# EAGLE library part PIC32MK1024MCF100 (library clackboard_lib)
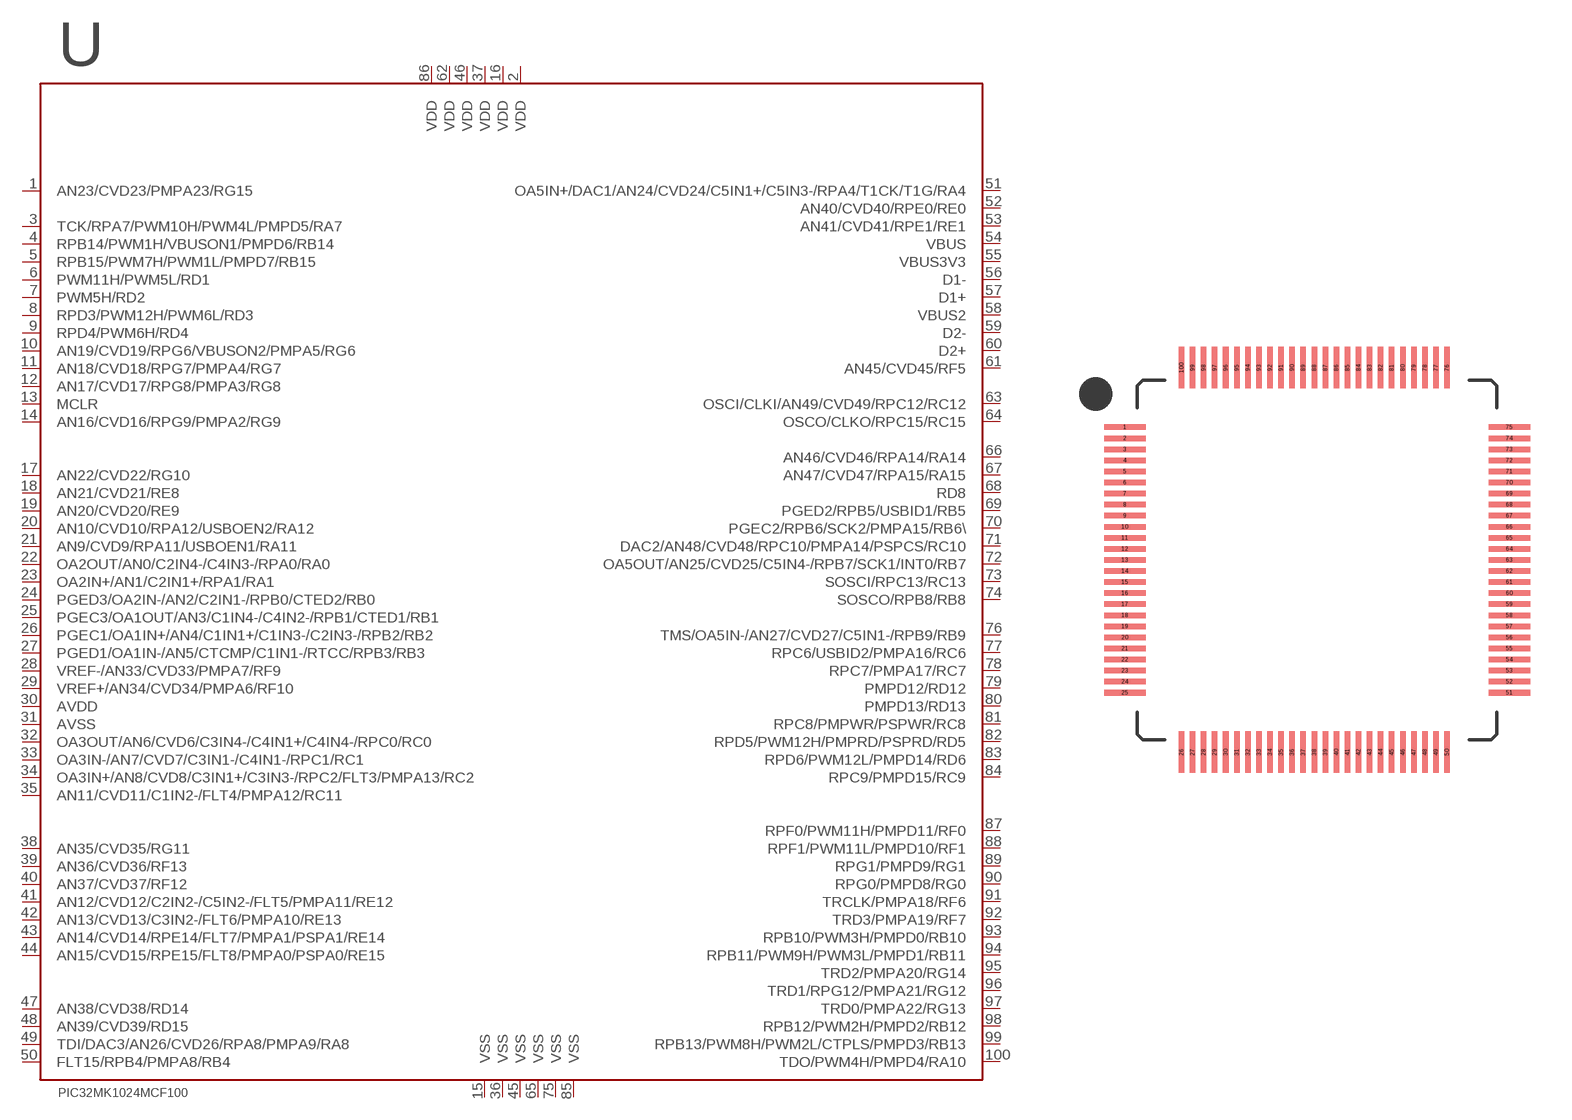
[diagram p0: symbol with the pads of PIC32MK1024MCF100; footprint PIC32MK1024MCF100]

Designator prefix U

## PIC32MK1024MCF100100TQFP  [PIC32MK1024MCF100]
1  AN23/CVD23/PMPA23/RG15
2  VDD
3  TCK/RPA7/PWM10H/PWM4L/PMPD5/RA7
4  RPB14/PWM1H/VBUSON1/PMPD6/RB14
5  RPB15/PWM7H/PWM1L/PMPD7/RB15
6  PWM11H/PWM5L/RD1
7  PWM5H/RD2
8  RPD3/PWM12H/PWM6L/RD3
9  RPD4/PWM6H/RD4
10  AN19/CVD19/RPG6/VBUSON2/PMPA5/RG6
11  AN18/CVD18/RPG7/PMPA4/RG7
12  AN17/CVD17/RPG8/PMPA3/RG8
13  MCLR
14  AN16/CVD16/RPG9/PMPA2/RG9
15  VSS
16  VDD
17  AN22/CVD22/RG10
18  AN21/CVD21/RE8
19  AN20/CVD20/RE9
20  AN10/CVD10/RPA12/USBOEN2/RA12
21  AN9/CVD9/RPA11/USBOEN1/RA11
22  OA2OUT/AN0/C2IN4-/C4IN3-/RPA0/RA0
23  OA2IN+/AN1/C2IN1+/RPA1/RA1
24  PGED3/OA2IN-/AN2/C2IN1-/RPB0/CTED2/RB0
25  PGEC3/OA1OUT/AN3/C1IN4-/C4IN2-/RPB1/CTED1/RB1
26  PGEC1/OA1IN+/AN4/C1IN1+/C1IN3-/C2IN3-/RPB2/RB2
27  PGED1/OA1IN-/AN5/CTCMP/C1IN1-/RTCC/RPB3/RB3
28  VREF-/AN33/CVD33/PMPA7/RF9
29  VREF+/AN34/CVD34/PMPA6/RF10
30  AVDD
31  AVSS
32  OA3OUT/AN6/CVD6/C3IN4-/C4IN1+/C4IN4-/RPC0/RC0
33  OA3IN-/AN7/CVD7/C3IN1-/C4IN1-/RPC1/RC1
34  OA3IN+/AN8/CVD8/C3IN1+/C3IN3-/RPC2/FLT3/PMPA13/RC2
35  AN11/CVD11/C1IN2-/FLT4/PMPA12/RC11
36  VSS
37  VDD
38  AN35/CVD35/RG11
39  AN36/CVD36/RF13
40  AN37/CVD37/RF12
41  AN12/CVD12/C2IN2-/C5IN2-/FLT5/PMPA11/RE12
42  AN13/CVD13/C3IN2-/FLT6/PMPA10/RE13
43  AN14/CVD14/RPE14/FLT7/PMPA1/PSPA1/RE14
44  AN15/CVD15/RPE15/FLT8/PMPA0/PSPA0/RE15
45  VSS
46  VDD
47  AN38/CVD38/RD14
48  AN39/CVD39/RD15
49  TDI/DAC3/AN26/CVD26/RPA8/PMPA9/RA8
50  FLT15/RPB4/PMPA8/RB4
51  OA5IN+/DAC1/AN24/CVD24/C5IN1+/C5IN3-/RPA4/T1CK/T1G/RA4
52  AN40/CVD40/RPE0/RE0
53  AN41/CVD41/RPE1/RE1
54  VBUS
55  VBUS3V3
56  D1-
57  D1+
58  VBUS2
59  D2-
60  D2+
61  AN45/CVD45/RF5
62  VDD
63  OSCI/CLKI/AN49/CVD49/RPC12/RC12
64  OSCO/CLKO/RPC15/RC15
65  VSS
66  AN46/CVD46/RPA14/RA14
67  AN47/CVD47/RPA15/RA15
68  RD8
69  PGED2/RPB5/USBID1/RB5
70  PGEC2/RPB6/SCK2/PMPA15/RB6\
71  DAC2/AN48/CVD48/RPC10/PMPA14/PSPCS/RC10
72  OA5OUT/AN25/CVD25/C5IN4-/RPB7/SCK1/INT0/RB7
73  SOSCI/RPC13/RC13
74  SOSCO/RPB8/RB8
75  VSS
76  TMS/OA5IN-/AN27/CVD27/C5IN1-/RPB9/RB9
77  RPC6/USBID2/PMPA16/RC6
78  RPC7/PMPA17/RC7
79  PMPD12/RD12
80  PMPD13/RD13
81  RPC8/PMPWR/PSPWR/RC8
82  RPD5/PWM12H/PMPRD/PSPRD/RD5
83  RPD6/PWM12L/PMPD14/RD6
84  RPC9/PMPD15/RC9
85  VSS
86  VDD
87  RPF0/PWM11H/PMPD11/RF0
88  RPF1/PWM11L/PMPD10/RF1
89  RPG1/PMPD9/RG1
90  RPG0/PMPD8/RG0
91  TRCLK/PMPA18/RF6
92  TRD3/PMPA19/RF7
93  RPB10/PWM3H/PMPD0/RB10
94  RPB11/PWM9H/PWM3L/PMPD1/RB11
95  TRD2/PMPA20/RG14
96  TRD1/RPG12/PMPA21/RG12
97  TRD0/PMPA22/RG13
98  RPB12/PWM2H/PMPD2/RB12
99  RPB13/PWM8H/PWM2L/CTPLS/PMPD3/RB13
100  TDO/PWM4H/PMPD4/RA10

## Footprint PIC32MK1024MCF100 (pad centres in mm)
smd 1.5 x 0.2: 1 -6.95,4.8; 2 -6.95,4.4; 3 -6.95,4; 4 -6.95,3.6; 5 -6.95,3.2; 6 -6.95,2.8; 7 -6.95,2.4; 8 -6.95,2; 9 -6.95,1.6; 10 -6.95,1.2; 11 -6.95,0.8; 12 -6.95,0.4; 13 -6.95,0; 14 -6.95,-0.4; 15 -6.95,-0.8; 16 -6.95,-1.2; 17 -6.95,-1.6; 18 -6.95,-2; 19 -6.95,-2.4; 20 -6.95,-2.8; 21 -6.95,-3.2; 22 -6.95,-3.6; 23 -6.95,-4; 24 -6.95,-4.4; 25 -6.95,-4.8; 51 6.95,-4.8; 52 6.95,-4.4; 53 6.95,-4; 54 6.95,-3.6; 55 6.95,-3.2; 56 6.95,-2.8; 57 6.95,-2.4; 58 6.95,-2; 59 6.95,-1.6; 60 6.95,-1.2; 61 6.95,-0.8; 62 6.95,-0.4; 63 6.95,0; 64 6.95,0.4; 65 6.95,0.8; 66 6.95,1.2; 67 6.95,1.6; 68 6.95,2; 69 6.95,2.4; 70 6.95,2.8; 71 6.95,3.2; 72 6.95,3.6; 73 6.95,4; 74 6.95,4.4; 75 6.95,4.8
smd 0.2 x 1.5: 26 -4.9,-6.95; 27 -4.5,-6.95; 28 -4.1,-6.95; 29 -3.7,-6.95; 30 -3.3,-6.95; 31 -2.9,-6.95; 32 -2.5,-6.95; 33 -2.1,-6.95; 34 -1.7,-6.95; 35 -1.3,-6.95; 36 -0.9,-6.95; 37 -0.5,-6.95; 38 -0.1,-6.95; 39 0.3,-6.95; 40 0.7,-6.95; 41 1.1,-6.95; 42 1.5,-6.95; 43 1.9,-6.95; 44 2.3,-6.95; 45 2.7,-6.95; 46 3.1,-6.95; 47 3.5,-6.95; 48 3.9,-6.95; 49 4.3,-6.95; 50 4.7,-6.95; 76 4.7,6.95; 77 4.3,6.95; 78 3.9,6.95; 79 3.5,6.95; 80 3.1,6.95; 81 2.7,6.95; 82 2.3,6.95; 83 1.9,6.95; 84 1.5,6.95; 85 1.1,6.95; 86 0.7,6.95; 87 0.3,6.95; 88 -0.1,6.95; 89 -0.5,6.95; 90 -0.9,6.95; 91 -1.3,6.95; 92 -1.7,6.95; 93 -2.1,6.95; 94 -2.5,6.95; 95 -2.9,6.95; 96 -3.3,6.95; 97 -3.7,6.95; 98 -4.1,6.95; 99 -4.5,6.95; 100 -4.9,6.95